# Altium schematic symbol library SMAJ6.5CA.SchLib: 1 symbol
Pins are listed as number, name and electrical type; pins without a type are passive.

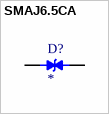
[diagram p0: symbol SMAJ6.5CA]

## SMAJ6.5CA
designator D?
11.2V Clamp 35.7A Ipp Tvs Diode Surface Mount DO-214AC (SMA); MF: Littelfuse; MP: SMAJ6.5CA; Purchase-URL: https://pricing.snapeda.com/search/part/SMAJ6.5CA/?ref=eda; SnapEDA_Link: https://www.snapeda.com/parts/SMAJ6.5CA/Littelfuse/view-part/?ref=snap; Value: *; Package: DO-214 Littelfuse; Check_prices: https://www.snapeda.com/parts/SMAJ6.5CA/Littelfuse/view-part/?ref=eda; Price: None; Availability: In Stock
footprint DIOM4325X250N
pins: 1, 2